# EAGLE library part BDCA-6-16+ (library Lasser)
Mini-Circuits BDCA-6-16+ 6dB Richtkoppler 800-1600MHz DC -pass low loss (2dB max.)
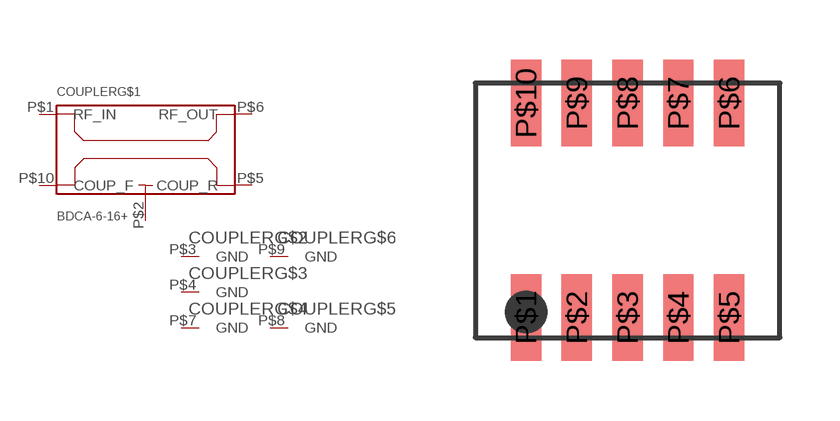
[diagram p6: symbol with the pads of MINICIRC_BDCASERIES; footprint MINICIRC_BDCASERIES]

Designator prefix COUPLER; gates G$1=RICHTKOPPLER G$2=GND G$3=GND G$4=GND G$5=GND G$6=GND

## BDCA-6-16+  [MINICIRC_BDCASERIES]
P$1  G$1:RF_IN
P$2  G$1:GND
P$3  G$2:GND  pwr
P$4  G$3:GND  pwr
P$5  G$1:COUP_R
P$6  G$1:RF_OUT
P$7  G$4:GND  pwr
P$8  G$5:GND  pwr
P$9  G$6:GND  pwr
P$10  G$1:COUP_F

## Footprint MINICIRC_BDCASERIES (pad centres in mm)
smd 0.76 x 2.16: P$1 -2.54,-2.68; P$2 -1.27,-2.68; P$3 0,-2.68; P$4 1.27,-2.68; P$5 2.54,-2.68; P$6 2.54,2.68; P$7 1.27,2.68; P$8 0,2.68; P$9 -1.27,2.68; P$10 -2.54,2.68